# Altium footprint library DIP-DBL  0607.PCBLIB: 54 footprints (part 2 of 4)
Each footprint in its own frame and in the unit in brackets; x right, y up, seen from the top. Pads: shape width x height; smd on the part's side, far side on the other; paste and mask are expansions set on the pad; w line width, h text height; cw(c..) or ccw(c..) is an arc to the next point about the centre after c.
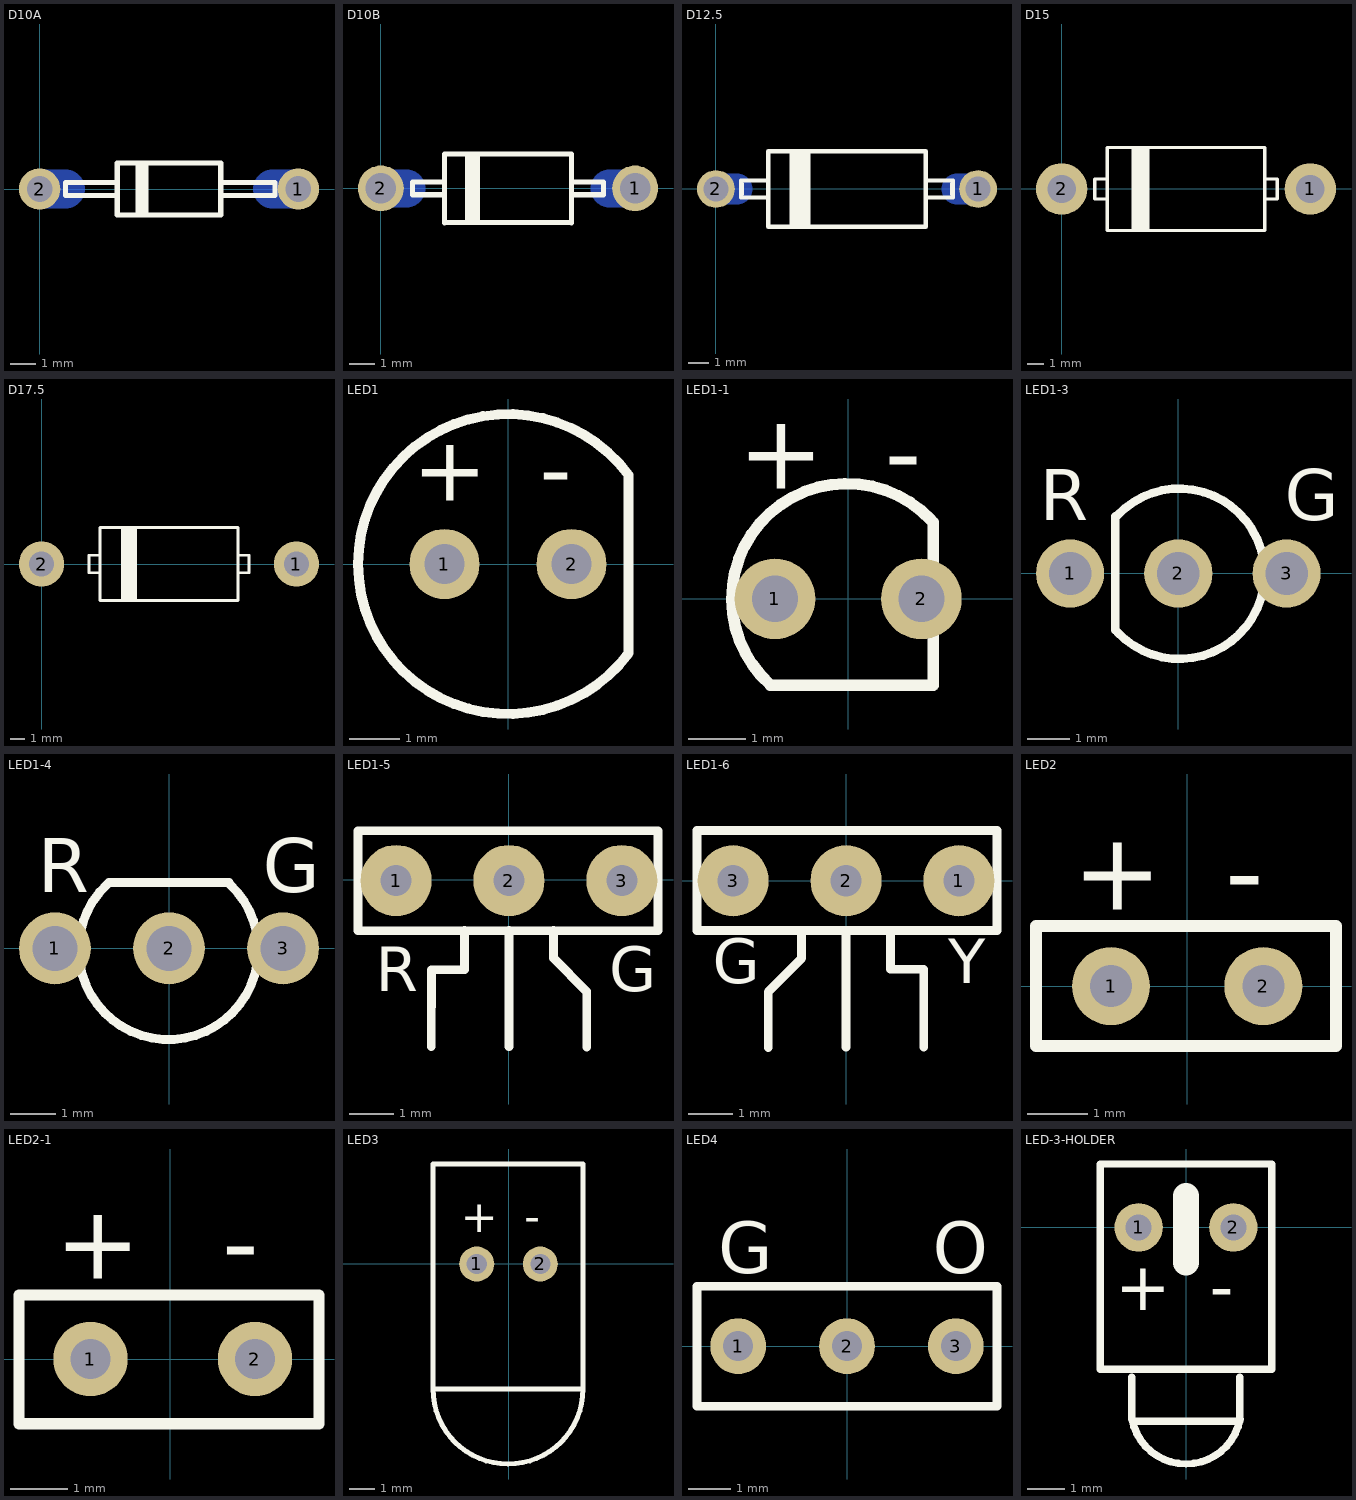
[diagram p1: the footprints below, top view; thin cyan lines are the x and y axes]

## D10A [mm]
pads (2):
  round 1.6 hole 1: 1(10,0) 2(0,0)
BottomLayer:
  lines w1.5: 0,0 1,0 ; 9,0 10,0
TopOverlay:
  rectangle: 3.7,-1 4.2,1
  lines w0.2: 3,-0.25 1,-0.25 1,0.25 3,0.25 ; 7,-0.25 9.1,-0.25 9.1,0.25 7,0.25 ; 3,-1 3,1 7,1 7,-1 3,-1
BottomSolder:
  lines w1: 0,0 1,0 ; 9,0 10,0

## D10B [mm]
pads (2):
  round 1.8 hole 1.2: 1(10,0) 2(0,0)
BottomLayer:
  lines w1.5: 0,0 1,0 ; 9,0 10,0
TopOverlay:
  rectangle: 3.3,-1.4 3.9,1.35
  lines w0.2: 2.5,-1.35 7.5,-1.35 ; 2.5,1.35 7.5,1.35
  lines w0.203: 2.5,-0.25 1.25,-0.25 1.25,0.25 2.5,0.25 ; 2.5,-1.35 2.5,1.35 ; 7.5,-1.35 7.5,1.35 ; 7.5,-0.25 8.75,-0.25 ; 7.5,0.25 8.75,0.25 ; 8.75,-0.25 8.75,0.25 ; 8.75,-0.25 8.75,0.25
BottomSolder:
  lines w1: 0,0 1,0 ; 9,0 10,0

## D12.5 [mm]
pads (2):
  round 1.8 hole 1.2: 1(12.5,0) 2(0,0)
BottomLayer:
  lines w1.5: 0,0 1,0 ; 11.5,0 12.5,0
TopOverlay:
  rectangle: 3.5,-1.7 4.5,1.7
  lines w0.2: 2.5,-1.8 10,-1.8 ; 2.5,-1.75 2.5,-1.25 2.5,1.75 ; 2.5,-0.4 1.2,-0.4 1.2,0.4 2.5,0.4 ; 2.5,1.8 10,1.8 ; 10,-1.75 10,-1.25 10,1.75 ; 10,-0.4 11.3,-0.4 11.3,0.4 10,0.4
  lines w0.203: 1.25,-0.25 1.25,0.25 ; 11.25,-0.25 11.25,0.25
BottomSolder:
  lines w1: 0,0 1,0 ; 11.5,0 12.5,0

## D15 [mm]
pads (2):
  round 3.1 hole 1.7: 1(15,0) 2(0,0)
TopOverlay:
  rectangle: 4.2,-2.501 5.3,2.499
  lines w0.2: 2.75,-0.6 2,-0.6 2,0.6 2.75,0.6 ; 12.25,-0.6 13,-0.6 13,0.6 12.25,0.6 ; 2.75,-2.5 12.25,-2.5 12.25,2.5 2.75,2.5 2.75,-2.5

## D17.5 [mm]
pads (2):
  round 3.1 hole 1.7: 1(17.5,0) 2(0,0)
TopOverlay:
  rectangle: 5.45,-2.5 6.55,2.5
  lines w0.2: 4,-0.6 3.25,-0.6 3.25,0.6 4,0.6 ; 13.5,-0.6 14.25,-0.6 14.25,0.6 13.5,0.6 ; 4,-2.5 4,2.5 13.5,2.5 13.5,-2.5 4,-2.5

## LED1 [mm]
pads (2):
  round 1.4 hole 0.8: 1(-1.27,0) 2(1.27,0)
TopOverlay:
  lines w0.2: 2.413,-1.778 cw(c0,0) 2.413,1.778 2.413,-1.778
  text "-" at 0.635,1.27 h1.3
  text "+" at -1.905,1.27 h1.3

## LED1-1 [mm]
pads (2):
  round 1.4 hole 0.8: 1(-1.27,0) 2(1.27,0)
TopOverlay:
  lines w0.2: -1.35,-1.5 1.48,-1.5 1.48,1.325 ; -1.346,-1.495 cw(c-0.02,0) 1.441,1.363
  text "-" at 0.635,1.905 h1.3
  text "+" at -1.905,1.905 h1.3

## LED1-3 [mm]
pads (3):
  round 1.6 hole 1: 1(-2.54,0) 2(0,0) 3(2.54,0)
TopOverlay:
  lines w0.2: -1.476,-1.332 -1.476,1.343 ; -1.437,-1.37 ccw(c0.024,-0.007) -1.437,1.356
  text "G" at 2.5,1.25 h1.2
  text "R" at -3.25,1.25 h1.2
BottomOverlay:
  lines w0.89: -1.27,-1.143 -1.27,1.143 ; 1.27,-1.143 1.27,1.143

## LED1-4 [mm]
pads (3):
  round 1.6 hole 1: 1(-2.54,0) 2(0,0) 3(2.54,0)
TopOverlay:
  lines w0.2: -1.374,1.43 ccw(c-0.012,-0.031) 1.351,1.43 ; -1.337,1.469 1.338,1.469
  text "R" at -2.921,1.245 h1.2
  text "G" at 2.083,1.245 h1.2
BottomOverlay:
  lines w0.89: -1.27,-1.143 -1.27,1.143 ; 1.27,-1.143 1.27,1.143

## LED1-5 [mm]
pads (3):
  round 1.6 hole 0.7 unplated: 1(-2.538,-0.013) 2(0.002,-0.013) 3(2.542,-0.013)
TopOverlay:
  lines w0.2: -1.748,-3.753 -1.744,-2.02 -0.994,-2.02 -0.998,-1.133 ; 0.002,-3.753 0.002,-1.133 ; 1.002,-1.133 1.002,-1.753 1.752,-2.513 1.752,-3.763 ; -3.395,-1.143 3.355,-1.143 3.355,1.107 -3.395,1.107 -3.395,-1.143
  text "R" at -2.994,-2.507 h1
  text "G" at 2.256,-2.507 h1

## LED1-6 [mm]
pads (3):
  round 1.6 hole 0.7 unplated: 1(2.54,0) 2(0,0) 3(-2.54,0)
TopOverlay:
  lines w0.2: -1.75,-3.75 -1.75,-2.5 -1,-1.74 -1,-1.12 ; 0,-3.74 0,-1.12 ; 1,-1.12 1,-1.99 1.75,-2 1.75,-3.74 ; -3.353,-1.12 3.397,-1.12 3.397,1.13 -3.353,1.13 -3.353,-1.12
  text "Y" at 2.3,-2.3 h1
  text "G" at -3,-2.3 h1

## LED2 [mm]
pads (2):
  round 1.3 hole 0.7: 1(-1.27,0) 2(1.27,0)
TopOverlay:
  lines w0.2: -2.52,-1 2.48,-1 2.48,1 -2.52,1 -2.52,0 -2.52,-1
  text "+" at -1.905,1.27 h1.3
  text "-" at 0.635,1.27 h1.3

## LED2-1 [mm]
pads (2):
  round 1.3 hole 0.7: 1(-1.397,0) 2(1.483,0)
TopOverlay:
  lines w0.2: -2.647,-1.13 -2.647,1.12 2.603,1.12 2.603,-1.13 -2.647,-1.13
  text "+" at -2.012,1.406 h1.3
  text "-" at 0.909,1.406 h1.3

## LED3 [mm]
pads (2):
  round 1.4 hole 0.8: 1(-1.27,0) 2(1.27,0)
TopOverlay:
  lines w0.2: -3.02,-5 ccw(c-0.02,-5) 2.98,-5 ; -3.02,-5 2.98,-5 ; -3.02,-5 -3.02,0 -3.02,4 2.98,4 2.98,-5
  text "-" at 0.635,1.27 h1.3
  text "+" at -1.905,1.27 h1.3
BottomOverlay:
  lines w0.7: 0,-1 0,1

## LED4 [mm]
pads (3):
  round 1.3 hole 0.7: 1(-2.54,0) 2(0,0) 3(2.54,0)
TopOverlay:
  lines w0.2: -3.5,-1.4 3.5,-1.4 3.5,1.4 -3.5,1.4 -3.5,-1.4
  text "G" at -3,1.7 h1.2
  text "O" at 2,1.7 h1.2
BottomOverlay:
  lines w0.89: -1.27,-1.143 -1.27,1.143 ; 1.27,-1.143 1.27,1.143

## LED-3-HOLDER [mm]
height 7.3
pads (2):
  round 1.3 hole 0.7: 1(-1.27,0) 2(1.27,0)
TopOverlay:
  lines w0.2: -1.457,-4.015 -1.457,-5.147 -1.397,-5.207 1.443,-5.207 1.443,-4.015 ; -1.45,-5.15 ccw(c0,-4.874) 0,-6.35 ccw(c0,-4.874) 1.45,-5.15 ; -2.3,-3.81 2.3,-3.81 2.3,1.7 -2.3,1.7 -2.3,-3.81
  lines w0.7: 0,-0.94 0,0.838
  text "+" at -1.905,-2.23 h1.3
  text "-" at 0.635,-2.23 h1.3